# Altium footprint library Led7segs.PcbLib: 12 footprints
Each footprint in its own frame and in the unit in brackets; x right, y up, seen from the top. Pads: shape width x height; smd on the part's side, far side on the other; paste and mask are expansions set on the pad; w line width, h text height; cw(c..) or ccw(c..) is an arc to the next point about the centre after c.
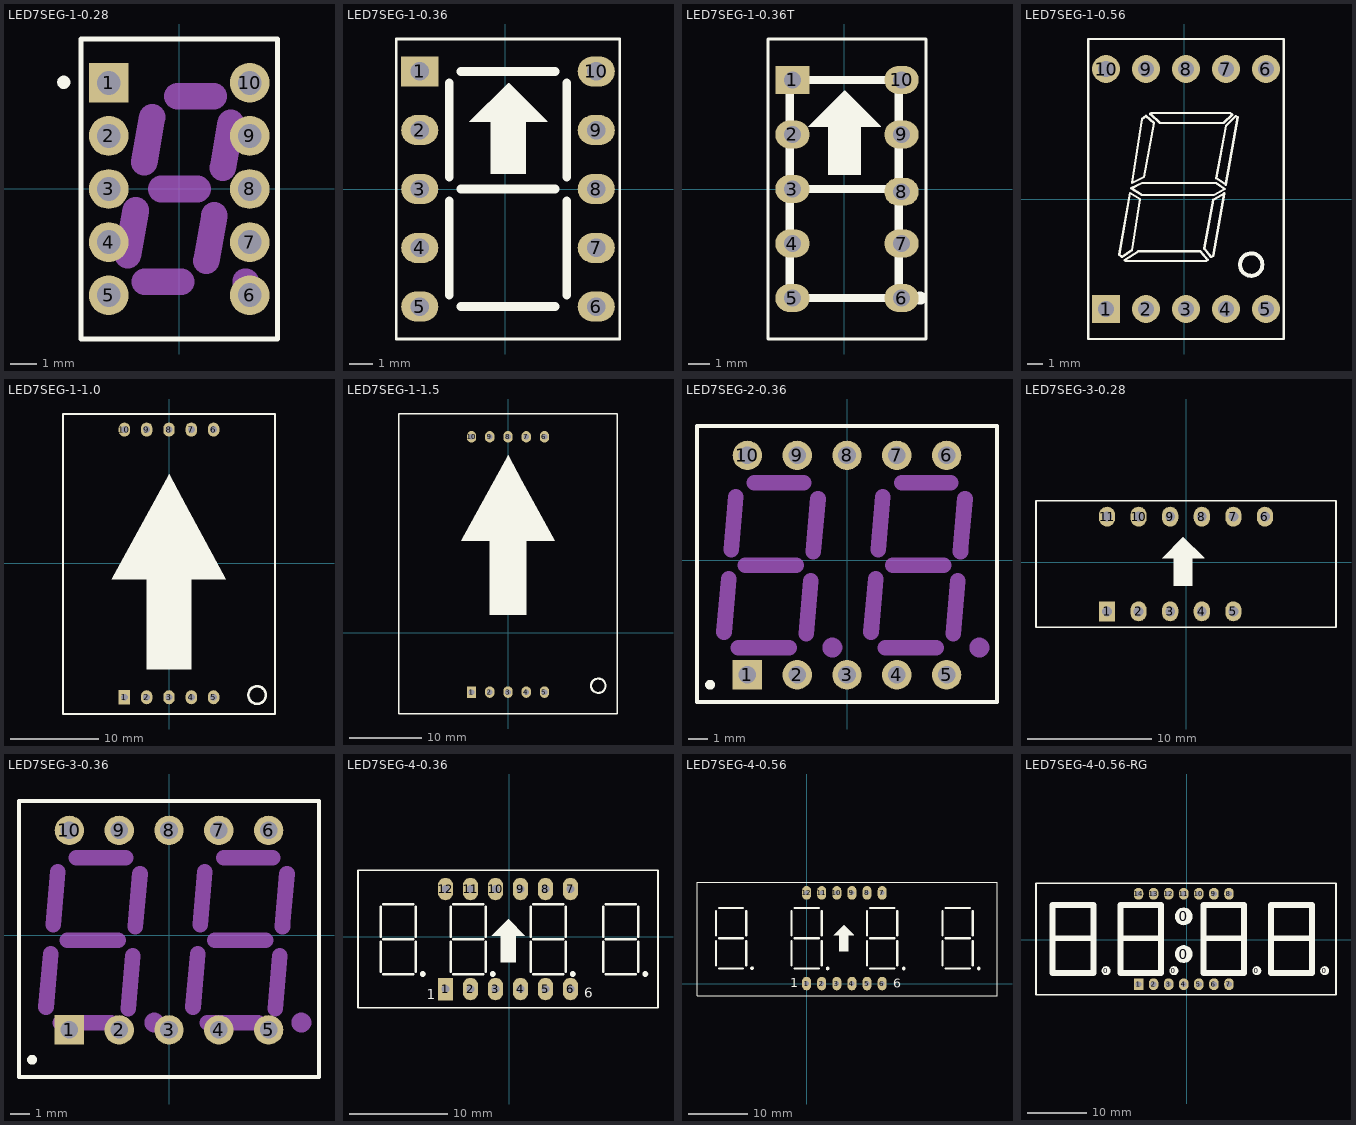
[diagram p0: the footprints below, top view; thin cyan lines are the x and y axes]

## LED7SEG-1-0.28 [mm]
height 7.62
pads (10):
  rect 1.5x1.5 hole 0.9: 1(-2.655,4)
  round 1.5 hole 0.9: 2(-2.655,2) 3(-2.655,0) 4(-2.655,-2) 5(-2.655,-4) 6(2.655,-4) 7(2.655,-2) 8(2.655,0) 9(2.655,2) 10(2.655,4)
Top Overlay:
  circle w0.25: c-4.35,4.02 r0.125
  lines w0.2: -3.7,-5.65 -3.7,5.65 -0.635,5.65 3.7,5.65 3.7,-5.65 -3.7,-5.65
Mechanical 1:
  circle w0.75: c2.5,-3.5 r0.13
  lines w1: -1.939,-2.497 -1.642,-0.801 ; -1.322,1.002 -1.024,2.699 ; -1.302,-3.5 0.066,-3.5 ; -0.685,0 0.686,0 ; -0.067,3.5 1.303,3.5 ; 1.024,-2.699 1.324,-0.999 ; 1.641,0.802 1.938,2.5
3D body "7 segment display 7mm grn.stp": height 8.04, standoff -0.96, extent -3.9,-5.05 3.9,5.05

## LED7SEG-1-0.36 [mil]
height 300
pads (10):
  rect 62.99x51.18 hole 31: 1(-145,200)
  oval 62.99x51.18 hole 31: 2(-145,100) 3(-145,0) 4(-145,-100) 5(-145,-200) 6(155,-200) 7(155,-100) 8(155,0) 9(155,100) 10(155,200)
Top Overlay:
  circle w12: c144,-200 r6
  region: -61,114 5,180 7,180 72,115 72,114 35,114 35,26 -24,26 -24,114
  lines w5: -185,-255 -185,255 195,255 195,-255 -185,-255
  lines w15: -95,-180 -95,-20 ; -95,-180 -95,-20 ; -95,-180 -95,-20 ; -95,-180 -95,-20 ; -95,-180 -95,-20 ; -95,-180 -95,-20 ; -95,-180 -95,-20 ; -95,-180 -95,-20 ; -95,20 -95,180 ; -95,20 -95,180 ; -95,20 -95,180 ; -95,20 -95,180 ; -95,20 -95,180 ; -95,20 -95,180 ; -95,20 -95,180 ; -95,20 -95,180 ; -75,-200 85,-200 ; -75,-200 85,-200 ; -75,-200 85,-200 ; -75,-200 85,-200 ; -75,0 85,0 ; -75,0 85,0 ; -75,0 85,0 ; -75,0 85,0 ; -75,0 85,0 ; -75,0 85,0 ; -75,0 85,0 ; -75,0 85,0 ; -75,200 85,200 ; -75,200 85,200 ; -75,200 85,200 ; -75,200 85,200 ; 105,-180 105,-20 ; 105,-180 105,-20 ; 105,-180 105,-20 ; 105,-180 105,-20 ; 105,-180 105,-20 ; 105,-180 105,-20 ; 105,-180 105,-20 ; 105,-180 105,-20 ; 105,20 105,180 ; 105,20 105,180 ; 105,20 105,180 ; 105,20 105,180 ; 105,20 105,180 ; 105,20 105,180 ; 105,20 105,180 ; 105,20 105,180
3D body "27755.stp": height 275.59, standoff -118.11, extent -183.97,-255.9 193.98,255.91

## LED7SEG-1-0.36T [mil] "LED, 7-Segment Display, 7.62 mm, RHD; 10 Leads; Row Space 5.08 mm; Pitch 2.54 mm"
height 300
pads (10):
  rect 62.99x51.18 hole 31: 1(-95,200)
  oval 62.99x51.18 hole 31: 2(-95,100) 3(-95,0) 4(-95,-100) 5(-95,-200) 6(105,-200) 7(105,-100) 8(105,-5) 9(105,100) 10(105,200)
Top Overlay:
  circle w12: c139,-200 r6
  region: -66,114 0,180 2,180 67,115 67,114 30,114 30,26 -29,26 -29,114
  lines w5: -140,-275 150,-275 150,275 -140,275 -140,-275
  lines w15: -100,-180 -100,-20 ; -100,-180 -100,-20 ; -100,-180 -100,-20 ; -100,-180 -100,-20 ; -100,-180 -100,-20 ; -100,-180 -100,-20 ; -100,-180 -100,-20 ; -100,-180 -100,-20 ; -100,20 -100,180 ; -100,20 -100,180 ; -100,20 -100,180 ; -100,20 -100,180 ; -100,20 -100,180 ; -100,20 -100,180 ; -100,20 -100,180 ; -100,20 -100,180 ; -80,-200 80,-200 ; -80,-200 80,-200 ; -80,-200 80,-200 ; -80,-200 80,-200 ; -80,0 80,0 ; -80,0 80,0 ; -80,0 80,0 ; -80,0 80,0 ; -80,0 80,0 ; -80,0 80,0 ; -80,0 80,0 ; -80,0 80,0 ; -80,200 80,200 ; -80,200 80,200 ; -80,200 80,200 ; -80,200 80,200 ; 100,-180 100,-20 ; 100,-180 100,-20 ; 100,-180 100,-20 ; 100,-180 100,-20 ; 100,-180 100,-20 ; 100,-180 100,-20 ; 100,-180 100,-20 ; 100,-180 100,-20 ; 100,20 100,180 ; 100,20 100,180 ; 100,20 100,180 ; 100,20 100,180 ; 100,20 100,180 ; 100,20 100,180 ; 100,20 100,180 ; 100,20 100,180
3D body "SW3dPS-Disp_SA36-11.STEP": height 156.19, standoff -335.93, extent -142.64,-275.59 152.63,275.59

## LED7SEG-1-0.56 [mil]
pads (10):
  rect 70x70 hole 40: 1(-195,-275)
  round 70 hole 40: 2(-95,-275) 3(5,-275) 4(105,-275) 5(205,-275) 6(205,325) 7(105,325) 8(5,325) 9(-95,325) 10(-195,325)
Top Overlay:
  circle w10: c168,-164 r28.02
  lines w6: -140,-155 -119,-155 ; -116,-155 -143,-155 -145,-155 ; -74,215 102,215 115,215 121,211 99,190 78,190 ; -72,215 -82,215 -85,213 -84,212 -60,190 80,190 ; -155,-145 -130,-128 ; -155,-145 -162,-139 -135,15 -110,0 -130,-128 ; -155,-145 -130,-128 ; -145,-155 -95,-155 55,-155 59,-152 41,-131 -114,-131 -148,-153 -145,-155 ; -239,-350 249,-350 249,400 -239,400 -239,-350 ; -132,27 -105,40 80,40 102,25 75,10 -105,10 -132,27 ; -130,40 -100,55 -75,190 -95,208 -105,200 -130,40 ; 51,-124 73,-2 77,0 101,14 73,-142 68,-145 51,-124 ; 81,52 105,183 129,207 134,205 104,36 81,52
3D body "27763.stp": height 314.96, standoff -137.8, extent -241.06,-349.01 251.07,399.02

## LED7SEG-1-1.0 [mm]
height 7.62
pads (10):
  rect 1.3x1.6 hole 0.787: 1(-5.08,-15.24)
  oval 1.3x1.6 hole 0.787: 2(-2.54,-15.24) 3(0,-15.24) 4(2.54,-15.24) 5(5.08,-15.24) 6(5.08,15.24) 7(2.54,15.24) 8(0,15.24) 9(-2.54,15.24) 10(-5.08,15.24)
Top Overlay:
  circle w0.305: c10.033,-14.986 r1
  region: -6.502,-1.803 0,10.16 1.905,6.604 6.477,-1.803 2.54,-1.803 2.54,-12.065 -2.54,-12.065 -2.54,-1.803
  lines w0.2: -12.065,-17.145 -12.065,17.018 12.065,17.018 12.065,-17.145 -12.065,-17.145
3D body "7seg1inch.SLDPRT": height 10.5, standoff -3, extent -12,-17.018 12,16.982

## LED7SEG-1-1.5 [mm]
height 7.62
pads (10):
  rect 1.3x1.6 hole 0.787: 1(-5.08,-8.255)
  oval 1.3x1.6 hole 0.787: 2(-2.54,-8.255) 3(0,-8.255) 4(2.54,-8.255) 5(5.08,-8.255) 6(5.08,27.305) 7(2.54,27.305) 8(0,27.305) 9(-2.54,27.305) 10(-5.08,27.305)
Top Overlay:
  circle w0.305: c12.573,-7.366 r1
  region: -6.502,12.802 0,24.765 1.905,21.209 6.477,12.802 2.54,12.802 2.54,2.54 -2.54,2.54 -2.54,12.802
  lines w0.178: 8.255,-11.303 15.24,-11.303 15.24,-8.255 15.24,30.48 0,30.48 -15.24,30.48 -15.24,-7.874 -15.24,-11.303 2.54,-11.303 9.525,-11.303

## LED7SEG-2-0.36 [mm] "LED, 7-Segment Display, 9.2 mm, Dual Digit; 10 Leads; Row Space 10.7 mm; Pitch 2.54 mm"
height 7.35
pads (10):
  rect 1.5x1.5 hole 0.9: 1(-5.08,-5.842)
  round 1.5 hole 0.9: 2(-2.54,-5.842) 3(0,-5.842) 4(2.54,-5.842) 5(5.08,-5.842) 6(5.08,5.35) 7(2.54,5.35) 8(0,5.35) 9(-2.54,5.35) 10(-5.08,5.35)
Top Overlay:
  circle w0.25: c-6.985,-6.35 r0.125
  lines w0.2: -7.65,-7.239 7.65,-7.239 7.65,6.858 -7.65,6.858 -7.65,-0.635 -7.65,-7.239
Mechanical 1:
  circle w0.75: c6.753,-4.454 r0.13
  circle w0.75: c-0.747,-4.454 r0.13
  lines w0.8: -6.275,-3.656 -6.038,-0.949 ; -5.909,0.547 -5.671,3.242 ; -5.541,-4.454 -2.949,-4.454 ; -5.172,-0.254 -2.582,-0.254 ; -4.714,3.946 -2.213,3.946 ; -2.084,-3.75 -1.847,-1.056 ; -1.715,0.448 -1.48,3.145 ; 1.225,-3.656 1.462,-0.949 ; 1.591,0.547 1.829,3.242 ; 1.959,-4.454 4.551,-4.454 ; 2.328,-0.254 4.918,-0.254 ; 2.786,3.946 5.287,3.946 ; 5.416,-3.75 5.653,-1.056 ; 5.785,0.448 6.02,3.145
3D body "61300511821.stp": height 8.51, standoff -3.09, extent -6.6,-7.072 6.6,-4.572
3D body "61300511821.stp": height 8.51, standoff -3.09, extent -6.6,4.1 6.6,6.6
3D body "7 Segment Double Digit LED Display.STEP": height 12.02, standoff 1, extent -7.5,-7.264 7.5,6.746

## LED7SEG-3-0.28 [mil]
height 300
pads (11):
  rect 51.18x62.99 hole 31: 1(-250,-155)
  oval 51.18x62.99 hole 31: 2(-150,-155) 3(-50,-155) 4(50,-155) 5(150,-155) 6(250,145) 7(150,145) 8(50,145) 9(-50,145) 10(-150,145) 11(-250,145)
Top Overlay:
  region: -76,14 -10,80 -8,80 57,15 57,14 20,14 20,-74 -39,-74 -39,14
  lines w5: -475,-205 -475,195 475,195 475,-205 -475,-205
3D body "User Library-IND GNT-2831BD.step": height -157.48, standoff -524.02, extent -472.44,-202.24 472.44,191.85
3D body "61300511821.stp": height 335.04, standoff -121.65, extent -309.84,-205 209.84,-106.57
3D body "61300611821.stp": height 335.04, standoff -121.65, extent -309.84,95.79 309.85,194.22

## LED7SEG-3-0.36 [mm]
height 7.35
pads (10):
  rect 1.5x1.5 hole 0.9: 1(-5.08,-4.826)
  round 1.5 hole 0.9: 2(-2.54,-4.826) 3(0,-4.826) 4(2.54,-4.826) 5(5.08,-4.826) 6(5.08,5.35) 7(2.54,5.35) 8(0,5.35) 9(-2.54,5.35) 10(-5.08,5.35)
Top Overlay:
  circle w0.25: c-6.985,-6.35 r0.125
  lines w0.2: -7.65,-7.239 7.65,-7.239 7.65,6.858 -7.65,6.858 -7.65,-0.635 -7.65,-7.239
Mechanical 1:
  circle w0.75: c6.753,-4.454 r0.13
  circle w0.75: c-0.747,-4.454 r0.13
  lines w0.8: -6.275,-3.656 -6.038,-0.949 ; -5.909,0.547 -5.671,3.242 ; -5.541,-4.454 -2.949,-4.454 ; -5.172,-0.254 -2.582,-0.254 ; -4.714,3.946 -2.213,3.946 ; -2.084,-3.75 -1.847,-1.056 ; -1.715,0.448 -1.48,3.145 ; 1.225,-3.656 1.462,-0.949 ; 1.591,0.547 1.829,3.242 ; 1.959,-4.454 4.551,-4.454 ; 2.328,-0.254 4.918,-0.254 ; 2.786,3.946 5.287,3.946 ; 5.416,-3.75 5.653,-1.056 ; 5.785,0.448 6.02,3.145
3D body "SD-3361_X.SLDPRT": height 12, standoff -1.3, extent -9.98,-6.746 12.52,7.254
3D body "61300511821.stp": height 8.51, standoff -3.09, extent -6.6,-6.076 6.6,-3.576
3D body "61300511821.stp": height 8.51, standoff -3.09, extent -6.6,4.1 6.6,6.6

## LED7SEG-4-0.36 [mil]
height 300
pads (12):
  rect 60x90 hole 31: 1(-255,-210)
  oval 60x90 hole 31: 2(-155,-210) 3(-55,-210) 4(45,-210) 5(145,-210) 6(245,-210) 7(245,190) 8(145,190) 9(45,190) 10(-55,190) 11(-155,190) 12(-255,190)
Top Overlay:
  circle w12: c254,-150 r6
  circle w12: c544,-150 r6
  circle w12: c-346,-150 r6
  circle w12: c-66,-150 r6
  region: -71,3 -5,69 -3,69 62,4 62,3 25,3 25,-103 -34,-103 -34,3
  lines w7: -605,-285 -605,265 595,265 595,-285 -605,-285
  lines w10: -515,-140 -515,-20 ; -515,0 -515,120 ; -505,-150 -385,-150 ; -505,130 -385,130 ; -375,-140 -375,-20 ; -375,0 -375,120 ; -235,-140 -235,-20 ; -235,0 -235,120 ; -225,-150 -105,-150 ; -225,130 -105,130 ; -95,-140 -95,-20 ; -95,0 -95,120 ; 85,-140 85,-20 ; 85,0 85,120 ; 95,-150 215,-150 ; 95,130 215,130 ; 225,-140 225,-20 ; 225,0 225,120 ; 375,-140 375,-20 ; 375,0 375,120 ; 385,-150 505,-150 ; 385,130 505,130 ; 515,-140 515,-20 ; 515,0 515,120 ; -505,-10 -385,-10 -505,-10 ; -225,-10 -105,-10 -225,-10 ; 95,-10 215,-10 95,-10 ; 385,-10 505,-10 385,-10
  text "1" at -330,-250 h39.37
  text "6" at 300,-245 h39.37
3D body "SOCKET6.stp": height 276.19, standoff -117.51, extent -305,-259.99 295,-159.99
3D body "SOCKET6.stp": height 276.19, standoff -117.51, extent -305,140 295,240
3D body "User Library-7-seg-4_asm.STEP": height 7.87, standoff -511.81, extent -595.55,-291.18 585.55,260

## LED7SEG-4-0.56 [mil]
height 300
pads (12):
  oval 60x90 hole 31: 1(0,0) 2(100,0) 3(200,0) 4(300,0) 5(400,0) 6(500,0) 7(500,600) 8(400,600) 9(300,600) 10(200,600) 11(100,600) 12(0,600)
Top Overlay:
  drawing of 155 lines, arcs and shapes, not listed
  text "6" at 575,-26 h60
  text "1" at -108,-24 h60
3D body "SOCKET6.stp": height 276.19, standoff -117.51, extent -50,550 550,650
3D body "SOCKET6.stp": height 276.19, standoff -117.51, extent -50,-44.99 550,55.01
3D body "7seg2-4.STEP": height 564.96, standoff 112.2, extent -720.16,-80 1260.16,668.03

## LED7SEG-4-0.56-RG [mil]
pads (20):
  round 60 on Top Overlay: 0(-535,-205) 0(-85,-205) 0(465,-205) 0(915,-205)
  round 118.11 on Top Overlay: 0(-20,-95) 0(-20,155)
  rect 62.99x78.74 hole 39.37: 1(-320,-295)
  oval 62.99x78.74 hole 39.37: 2(-220,-295) 3(-120,-295) 4(-20,-295) 5(80,-295) 6(180,-295) 7(280,-295) 8(280,305) 9(180,305) 10(80,305) 11(-20,305) 12(-120,305) 13(-220,305) 14(-320,305)
Top Overlay:
  lines w10: -1000,-365 990,-365 990,375 -1000,375 -1000,-365
  lines w39.37: -885,10 -620,10 ; -435,10 -170,10 ; 115,10 380,10 ; 565,10 830,10 ; -890,-220 -620,-220 -620,230 -890,230 -890,-220 ; -440,-220 -170,-220 -170,230 -440,230 -440,-220 ; 110,-220 380,-220 380,230 110,230 110,-220 ; 560,-220 830,-220 830,230 560,230 560,-220
3D body "SOCKET6.stp": height 276.19, standoff -117.51, extent -325,260 275,360
3D body "SOCKET6.stp": height 276.19, standoff -117.51, extent -325,-334.99 275,-234.99
3D body "7seg2-4.STEP": height 564.96, standoff 112.2, extent -995.16,-370 985.16,378.03